# EAGLE library part HEADER-FE-3X2 (library TEABOX-LIB)
FEMALE HEADER
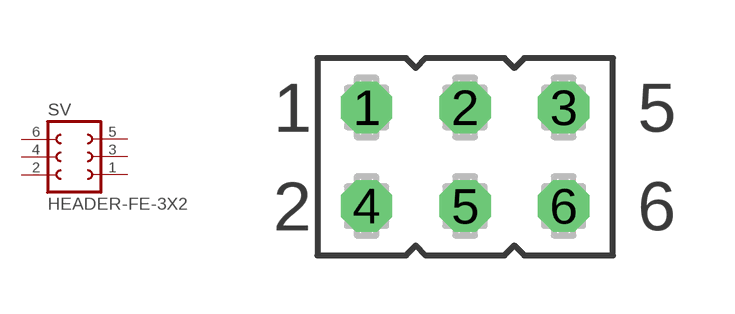
[diagram p18: symbol with the pads of HEADER-FE-3X2; footprint HEADER-FE-3X2]

Designator prefix SV

## HEADER-FE-3X2  [HEADER-FE-3X2]
1  1  pas
2  2  pas
3  3  pas
4  4  pas
5  5  pas
6  6  pas

## Footprint HEADER-FE-3X2 (pad centres in mm)
FEMALE HEADER
drill 0.813 octagon: 1 -5.08,0; 2 -2.54,0; 3 0,0; 4 -5.08,-2.54; 5 -2.54,-2.54; 6 0,-2.54